# Altium footprint library SOD-123FL_L2.8-W1.8-LS3.7-RD.PcbLib: 1 footprints
Each footprint in its own frame and in the unit in brackets; x right, y up, seen from the top. Pads: shape width x height; smd on the part's side, far side on the other; paste and mask are expansions set on the pad; w line width, h text height; cw(c..) or ccw(c..) is an arc to the next point about the centre after c.
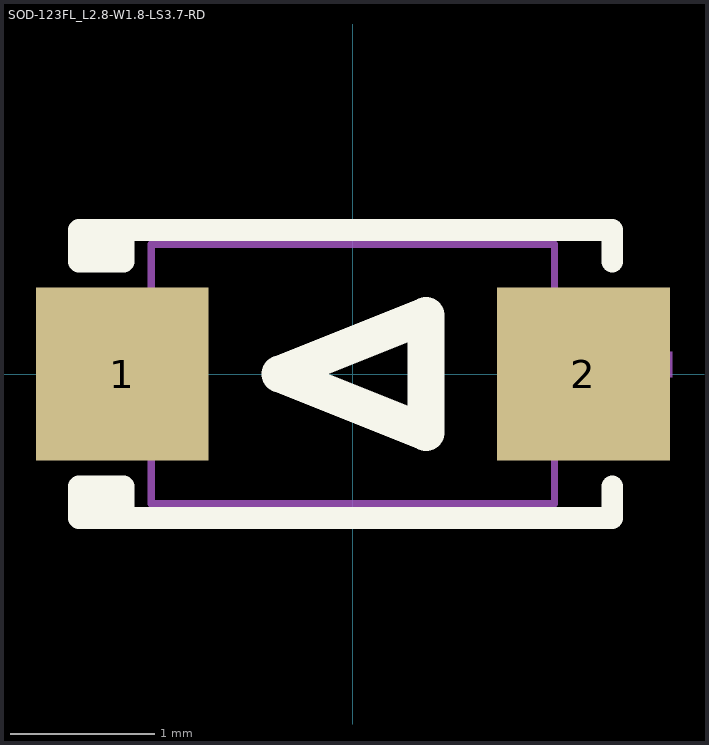
[diagram p0: the footprint, top view; thin cyan lines are the x and y axes]

## SOD-123FL_L2.8-W1.8-LS3.7-RD [mm]
pads (2):
  rect 1.2x1.2 smd: 1(-1.6,0) 2(1.6,0)
Top Overlay:
  lines w0.152: -1.791,-1 -1.791,-0.78 ; -1.791,0.78 -1.791,1 ; -1.691,-1 -1.691,-0.78 ; -1.691,0.78 -1.691,1 ; -1.591,-1 -1.591,-0.78 -1.9,-0.78 -1.9,-1 1.6,-1 1.8,-1 1.8,-0.78 ; -1.591,1 -1.591,0.78 -1.9,0.78 -1.9,1 1.4,1 ; 1.2,1 1.8,1 1.8,0.78
  lines w0.254: -0.508,0 0.508,0.406 0.508,-0.406 -0.508,0
Mechanical 6:
  region: -1.314,-0.094 -2.194,-0.094 -2.194,0.086 -1.314,0.086
  region: 2.216,-0.024 1.336,-0.024 1.336,0.156 2.216,0.156
  region: 1.656,-0.436 1.656,0.444 1.836,0.444 1.836,-0.436
Mechanical 15:
  region: -1.785,-0.9 -1.804,-0.854 -1.85,-0.835 -1.896,-0.854 -1.915,-0.9 -1.896,-0.946 -1.85,-0.965 -1.804,-0.946
  region: 1.05,0.475 1.85,0.475 1.85,-0.475 1.05,-0.475
  region: -1.85,0.475 -1.05,0.475 -1.05,-0.475 -1.85,-0.475
  lines w0.051: -1.4,-0.9 -1.4,0.9 1.4,0.9 1.4,-0.9 -1.4,-0.9